# EAGLE library part AT91SAM7SE512/256/32 (library at91sam7sexxx-au)
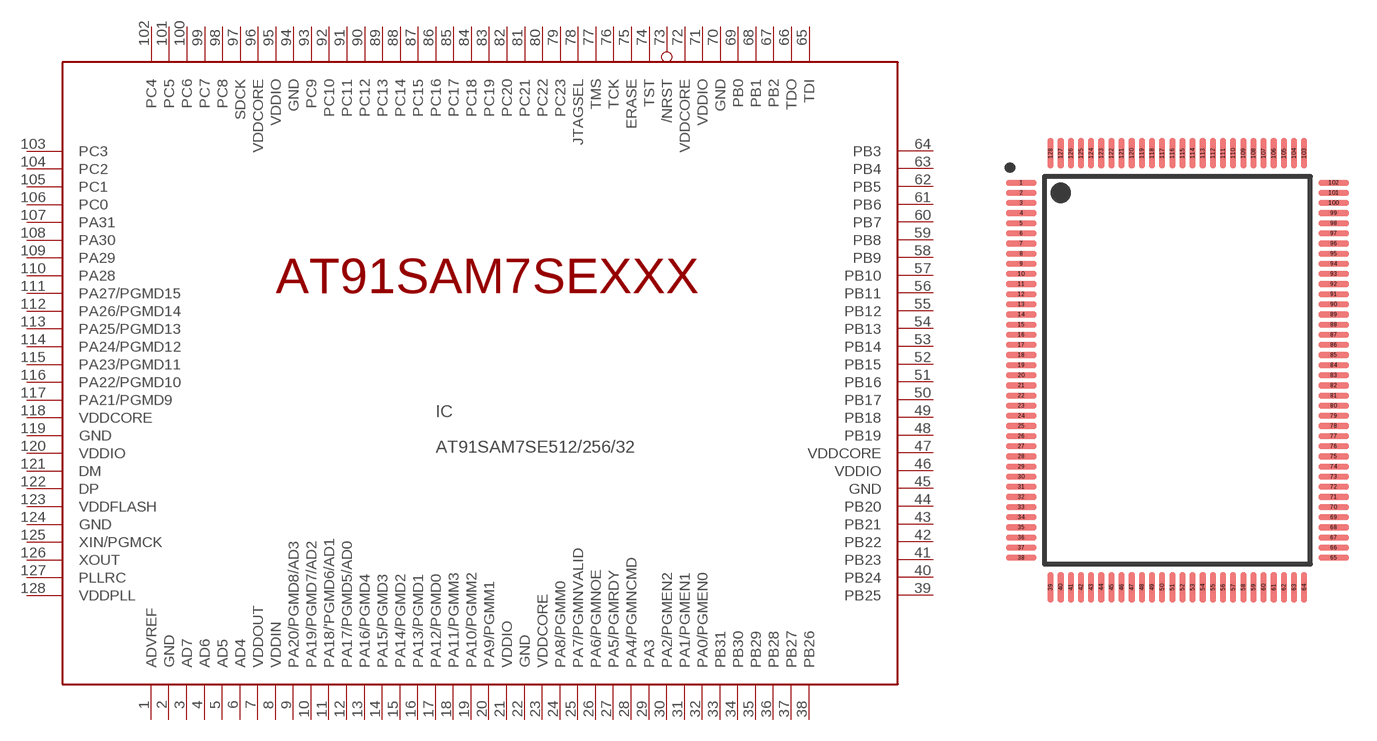
[diagram p0: symbol with the pads of LQFP-128; footprint LQFP-128]

Designator prefix IC

## AT91SAM7SE512/256/32-AU  [LQFP-128]
1  ADVREF  pas
2  GND  pwr
3  AD7  pas
4  AD6  pas
5  AD5  pas
6  AD4  pas
7  VDDOUT  pwr
8  VDDIN  pwr
9  PA20/PGMD8/AD3
10  PA19/PGMD7/AD2
11  PA18/'PGMD6/AD1
12  PA17/PGMD5/AD0
13  PA16/PGMD4
14  PA15/PGMD3
15  PA14/PGMD2
16  PA13/PGMD1
17  PA12/PGMD0
18  PA11/PGMM3
19  PA10/PGMM2
20  PA9/PGMM1
21  VDDIO  pwr
22  GND  pwr
23  VDDCORE  pwr
24  PA8/PGMM0
25  PA7/PGMNVALID
26  PA6/PGMNOE
27  PA5/PGMRDY
28  PA4/PGMNCMD
29  PA3
30  PA2/PGMEN2
31  PA1/PGMEN1
32  PA0/PGMEN0
33  PB31
34  PB30
35  PB29
36  PB28
37  PB27
38  PB26
39  PB25
40  PB24
41  PB23
42  PB22
43  PB21
44  PB20
45  GND  pwr
46  VDDIO  pwr
47  VDDCORE  pwr
48  PB19
49  PB18
50  PB17
51  PB16
52  PB15
53  PB14
54  PB13
55  PB12
56  PB11
57  PB10
58  PB9
59  PB8
60  PB7
61  PB6
62  PB5
63  PB4
64  PB3
65  TDI  in
66  TDO
67  PB2
68  PB1
69  PB0
70  GND  pwr
71  VDDIO  pwr
72  VDDCORE  pwr
73  /NRST  in
74  TST  in
75  ERASE  in
76  TCK  in
77  TMS  in
78  JTAGSEL  in
79  PC23
80  PC22
81  PC21
82  PC20
83  PC19
84  PC18
85  PC17
86  PC16
87  PC15
88  PC14
89  PC13
90  PC12
91  PC11
92  PC10
93  PC9
94  GND  pwr
95  VDDIO  pwr
96  VDDCORE  pwr
97  SDCK
98  PC8
99  PC7
100  PC6
101  PC5
102  PC4
103  PC3
104  PC2
105  PC1
106  PC0
107  PA31
108  PA30
109  PA29
110  PA28
111  PA27/PGMD15
112  PA26/PGMD14
113  PA25/PGMD13
114  PA24/PGMD12
115  PA23/PGMD11
116  PA22/PGMD10
117  PA21/PGMD9
118  VDDCORE  pwr
119  GND  pwr
120  VDDIO  pwr
121  DM  pas
122  DP  pas
123  VDDFLASH  pwr
124  GND  pwr
125  XIN/PGMCK  pas
126  XOUT  pas
127  PLLRC  pas
128  VDDPLL  pwr

## Footprint LQFP-128 (pad centres in mm)
TSQFP50P1600X2200X160-128N nach IPC7351A ( LQFP-128 )
smd 1.5 x 0.3: 1 -7.7,9.25; 2 -7.7,8.75; 3 -7.7,8.25; 4 -7.7,7.75; 5 -7.7,7.25; 6 -7.7,6.75; 7 -7.7,6.25; 8 -7.7,5.75; 9 -7.7,5.25; 10 -7.7,4.75; 11 -7.7,4.25; 12 -7.7,3.75; 13 -7.7,3.25; 14 -7.7,2.75; 15 -7.7,2.25; 16 -7.7,1.75; 17 -7.7,1.25; 18 -7.7,0.75; 19 -7.7,0.25; 20 -7.7,-0.25; 21 -7.7,-0.75; 22 -7.7,-1.25; 23 -7.7,-1.75; 24 -7.7,-2.25; 25 -7.7,-2.75; 26 -7.7,-3.25; 27 -7.7,-3.75; 28 -7.7,-4.25; 29 -7.7,-4.75; 30 -7.7,-5.25; 31 -7.7,-5.75; 32 -7.7,-6.25; 33 -7.7,-6.75; 34 -7.7,-7.25; 35 -7.7,-7.75; 36 -7.7,-8.25; 37 -7.7,-8.75; 38 -7.7,-9.25; 65 7.7,-9.25; 66 7.7,-8.75; 67 7.7,-8.25; 68 7.7,-7.75; 69 7.7,-7.25; 70 7.7,-6.75; 71 7.7,-6.25; 72 7.7,-5.75; 73 7.7,-5.25; 74 7.7,-4.75; 75 7.7,-4.25; 76 7.7,-3.75; 77 7.7,-3.25; 78 7.7,-2.75; 79 7.7,-2.25; 80 7.7,-1.75; 81 7.7,-1.25; 82 7.7,-0.75; 83 7.7,-0.25; 84 7.7,0.25; 85 7.7,0.75; 86 7.7,1.25; 87 7.7,1.75; 88 7.7,2.25; 89 7.7,2.75; 90 7.7,3.25; 91 7.7,3.75; 92 7.7,4.25; 93 7.7,4.75; 94 7.7,5.25; 95 7.7,5.75; 96 7.7,6.25; 97 7.7,6.75; 98 7.7,7.25; 99 7.7,7.75; 100 7.7,8.25; 101 7.7,8.75; 102 7.7,9.25
smd 0.3 x 1.5: 39 -6.25,-10.7; 40 -5.75,-10.7; 41 -5.25,-10.7; 42 -4.75,-10.7; 43 -4.25,-10.7; 44 -3.75,-10.7; 45 -3.25,-10.7; 46 -2.75,-10.7; 47 -2.25,-10.7; 48 -1.75,-10.7; 49 -1.25,-10.7; 50 -0.75,-10.7; 51 -0.25,-10.7; 52 0.25,-10.7; 53 0.75,-10.7; 54 1.25,-10.7; 55 1.75,-10.7; 56 2.25,-10.7; 57 2.75,-10.7; 58 3.25,-10.7; 59 3.75,-10.7; 60 4.25,-10.7; 61 4.75,-10.7; 62 5.25,-10.7; 63 5.75,-10.7; 64 6.25,-10.7; 103 6.25,10.7; 104 5.75,10.7; 105 5.25,10.7; 106 4.75,10.7; 107 4.25,10.7; 108 3.75,10.7; 109 3.25,10.7; 110 2.75,10.7; 111 2.25,10.7; 112 1.75,10.7; 113 1.25,10.7; 114 0.75,10.7; 115 0.25,10.7; 116 -0.25,10.7; 117 -0.75,10.7; 118 -1.25,10.7; 119 -1.75,10.7; 120 -2.25,10.7; 121 -2.75,10.7; 122 -3.25,10.7; 123 -3.75,10.7; 124 -4.25,10.7; 125 -4.75,10.7; 126 -5.25,10.7; 127 -5.75,10.7; 128 -6.25,10.7